# Altium schematic symbol library ADM823.SchLib: 1 symbol
Pins are listed as number, name and electrical type; pins without a type are passive.

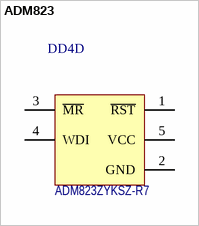
[diagram p0: symbol ADM823]

## ADM823
designator DD4D, comment Наименование: ADM823ZYKSZ-R7  (hidden comment: ADM823LYRJ-R7)
Supervisory Circuits with Watchdog and Manual Reset; Потребление, Вт: 0.001; ComponentLink1Description: DataSheet; ComponentLink1URL: https://static.chipdip.ru/lib/445/DOC012445838.pdf; Назначение: Supervisory Circuits with Watchdog and
footprint SOT23-5
footprint SC-70 (SC-70, 5-Leads, Body 2,00x2,10mm, Pitch 0,65mm, IPC Medium Density)
pins: 1 ~{RST}, 2 GND (power), 3 ~{MR}, 4 WDI, 5 VCC (power)